# EAGLE library part MC9S12DG256 (library LQ112)
Motorola 112-LQFP micro
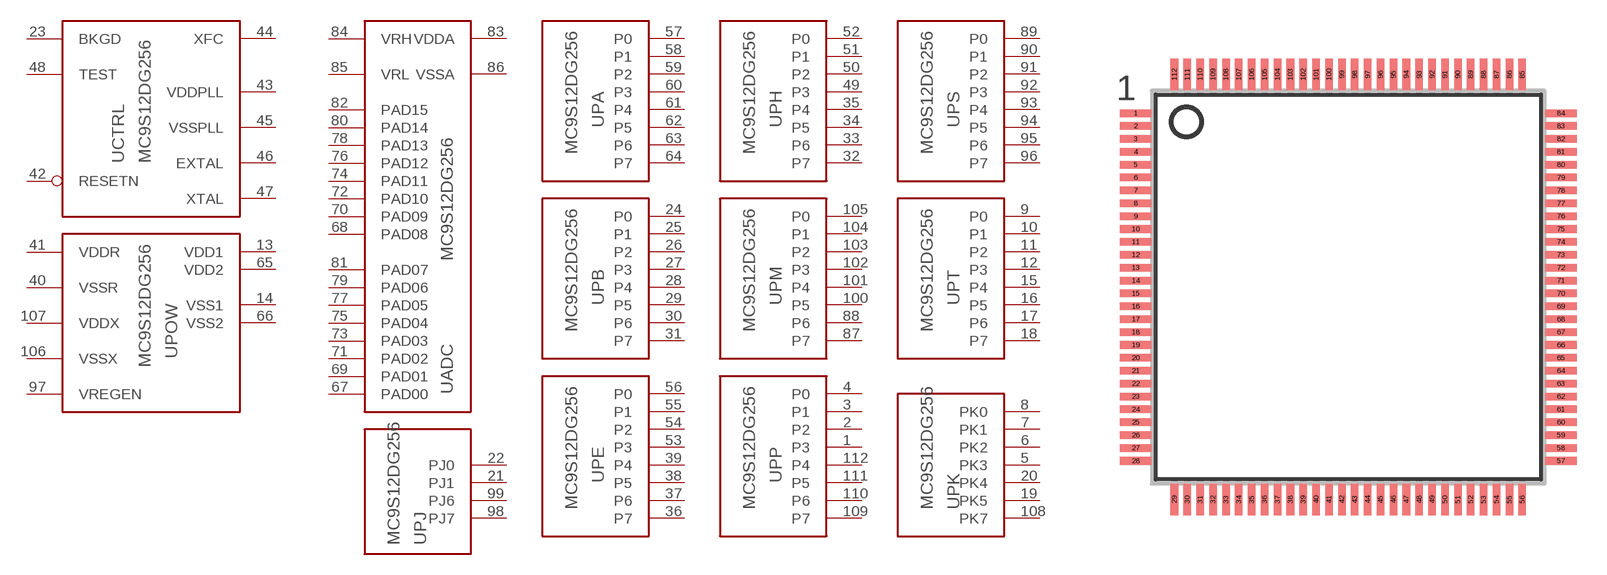
[diagram p0: symbol with the pads of LQFP-112; footprint LQFP-112]

Designator prefix -; gates ADC=MC9S12DG_ADC16 CTRL=MC9S12DG_CTRL POW=MC9S12DG_POW PA=PORT8 PB=PORT8 PE=PORT8 PH=PORT8 PM=PORT8 PP=PORT8 PS=PORT8 PT=PORT8 PK=MC9S12DG_PK PJ=MC9S12DG_PJ

## MC9S12DG256  [LQFP-112]
1  PP:P3
2  PP:P2
3  PP:P1
4  PP:P0
5  PK:PK3
6  PK:PK2
7  PK:PK1
8  PK:PK0
9  PT:P0
10  PT:P1
11  PT:P2
12  PT:P3
13  POW:VDD1  pwr
14  POW:VSS1  pwr
15  PT:P4
16  PT:P5
17  PT:P6
18  PT:P7
19  PK:PK5
20  PK:PK4
21  PJ:PJ1
22  PJ:PJ0
23  CTRL:BKGD  in
24  PB:P0
25  PB:P1
26  PB:P2
27  PB:P3
28  PB:P4
29  PB:P5
30  PB:P6
31  PB:P7
32  PH:P7
33  PH:P6
34  PH:P5
35  PH:P4
36  PE:P7
37  PE:P6
38  PE:P5
39  PE:P4
40  POW:VSSR  pwr
41  POW:VDDR  pwr
42  CTRL:RESETN  in
43  CTRL:VDDPLL  pwr
44  CTRL:XFC  pas
45  CTRL:VSSPLL  pwr
46  CTRL:EXTAL  out
47  CTRL:XTAL  pas
48  CTRL:TEST  in
49  PH:P3
50  PH:P2
51  PH:P1
52  PH:P0
53  PE:P3
54  PE:P2
55  PE:P1
56  PE:P0
57  PA:P0
58  PA:P1
59  PA:P2
60  PA:P3
61  PA:P4
62  PA:P5
63  PA:P6
64  PA:P7
65  POW:VDD2  pwr
66  POW:VSS2  pwr
67  ADC:PAD00  in
68  ADC:PAD08  in
69  ADC:PAD01  in
70  ADC:PAD09  in
71  ADC:PAD02  in
72  ADC:PAD10  in
73  ADC:PAD03  in
74  ADC:PAD11  in
75  ADC:PAD04  in
76  ADC:PAD12  in
77  ADC:PAD05  in
78  ADC:PAD13  in
79  ADC:PAD06  in
80  ADC:PAD14  in
81  ADC:PAD07  in
82  ADC:PAD15  in
83  ADC:VDDA  pwr
84  ADC:VRH  in
85  ADC:VRL  in
86  ADC:VSSA  pwr
87  PM:P7
88  PM:P6
89  PS:P0
90  PS:P1
91  PS:P2
92  PS:P3
93  PS:P4
94  PS:P5
95  PS:P6
96  PS:P7
97  POW:VREGEN  in
98  PJ:PJ7
99  PJ:PJ6
100  PM:P5
101  PM:P4
102  PM:P3
103  PM:P2
104  PM:P1
105  PM:P0
106  POW:VSSX  pwr
107  POW:VDDX  pwr
108  PK:PK7
109  PP:P7
110  PP:P6
111  PP:P5
112  PP:P4

## Footprint LQFP-112 (pad centres in mm)
smd 1.6 x 0.38: 1 -10.725,8.775; 2 -10.725,8.125; 3 -10.725,7.475; 4 -10.725,6.825; 5 -10.725,6.175; 6 -10.725,5.525; 7 -10.725,4.875; 8 -10.725,4.225; 9 -10.725,3.575; 10 -10.725,2.925; 11 -10.725,2.275; 12 -10.725,1.625; 13 -10.725,0.975; 14 -10.725,0.325; 15 -10.725,-0.325; 16 -10.725,-0.975; 17 -10.725,-1.625; 18 -10.725,-2.275; 19 -10.725,-2.925; 20 -10.725,-3.575; 21 -10.725,-4.225; 22 -10.725,-4.875; 23 -10.725,-5.525; 24 -10.725,-6.175; 25 -10.725,-6.825; 26 -10.725,-7.475; 27 -10.725,-8.125; 28 -10.725,-8.775; 57 10.725,-8.775; 58 10.725,-8.125; 59 10.725,-7.475; 60 10.725,-6.825; 61 10.725,-6.175; 62 10.725,-5.525; 63 10.725,-4.875; 64 10.725,-4.225; 65 10.725,-3.575; 66 10.725,-2.925; 67 10.725,-2.275; 68 10.725,-1.625; 69 10.725,-0.975; 70 10.725,-0.325; 71 10.725,0.325; 72 10.725,0.975; 73 10.725,1.625; 74 10.725,2.275; 75 10.725,2.925; 76 10.725,3.575; 77 10.725,4.225; 78 10.725,4.875; 79 10.725,5.525; 80 10.725,6.175; 81 10.725,6.825; 82 10.725,7.475; 83 10.725,8.125; 84 10.725,8.775
smd 0.38 x 1.6: 29 -8.775,-10.725; 30 -8.125,-10.725; 31 -7.475,-10.725; 32 -6.825,-10.725; 33 -6.175,-10.725; 34 -5.525,-10.725; 35 -4.875,-10.725; 36 -4.225,-10.725; 37 -3.575,-10.725; 38 -2.925,-10.725; 39 -2.275,-10.725; 40 -1.625,-10.725; 41 -0.975,-10.725; 42 -0.325,-10.725; 43 0.325,-10.725; 44 0.975,-10.725; 45 1.625,-10.725; 46 2.275,-10.725; 47 2.925,-10.725; 48 3.575,-10.725; 49 4.225,-10.725; 50 4.875,-10.725; 51 5.525,-10.725; 52 6.175,-10.725; 53 6.825,-10.725; 54 7.475,-10.725; 55 8.125,-10.725; 56 8.775,-10.725; 85 8.775,10.725; 86 8.125,10.725; 87 7.475,10.725; 88 6.825,10.725; 89 6.175,10.725; 90 5.525,10.725; 91 4.875,10.725; 92 4.225,10.725; 93 3.575,10.725; 94 2.925,10.725; 95 2.275,10.725; 96 1.625,10.725; 97 0.975,10.725; 98 0.325,10.725; 99 -0.325,10.725; 100 -0.975,10.725; 101 -1.625,10.725; 102 -2.275,10.725; 103 -2.925,10.725; 104 -3.575,10.725; 105 -4.225,10.725; 106 -4.875,10.725; 107 -5.525,10.725; 108 -6.175,10.725; 109 -6.825,10.725; 110 -7.475,10.725; 111 -8.125,10.725; 112 -8.775,10.725